# Altium schematic symbol library RTL8188FTV.SchLib: 1 symbol
Pins are listed as number, name and electrical type; pins without a type are passive.

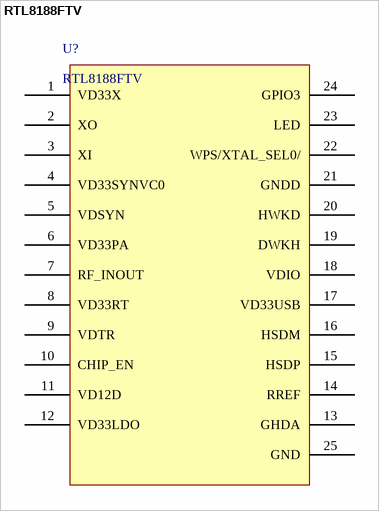
[diagram p0: symbol RTL8188FTV]

## RTL8188FTV
designator U?
footprint QFN-4X4-24-EA3059 (QFN, 24-Leads, Body 4.00x4.00mm, Pitch 0.50mm, Thermal Pad 2.50x2.50mm, IPC Medium Density)
pins: 1 VD33X, 2 XO, 3 XI, 4 VD33SYNVC0, 5 VDSYN, 6 VD33PA, 7 RF_INOUT, 8 VD33RT, 9 VDTR, 10 CHIP_EN, 11 VD12D, 12 VD33LDO, 13 GHDA, 14 RREF, 15 HSDP, 16 HSDM, 17 VD33USB, 18 VDIO, 19 DWKH, 20 HWKD, 21 GNDD, 22 WPS/XTAL_SEL0/, 23 LED, 24 GPIO3, 25 GND